# Altium schematic symbol library Varistors.SchLib: 1 symbol
Pins are listed as number, name and electrical type; pins without a type are passive.

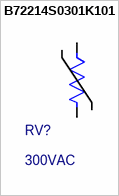
[diagram p0: symbol B72214S0301K101]

## B72214S0301K101
designator RV?, comment 300VAC
Var MOV 300VAC/385VDC 4500A 470V Thru-Hole Radial Automotive Bulk; Manufacturer: EPCOS; Manufacturer Part Number: B72214S0301K101; Value: 400pF; Clamping Current: 50A; Clamping Voltage: 775V; Energy: 76J; Lead Length: 30mm; Max Surge Current: 4.5kA; Max Voltage Rating (AC): 300V; Max Voltage Rating (DC): 385V; Power Dissipation: 600mW; Tolerance: 10%; Supplier: DigiKey; Supplier Part Number: 495-3789-ND; RoHS: Compliant; Category: Resistors; Stock: 24616; Pricing: 1=0.37, 10=0.258, 25=0.23, 100=0.1988, 250=0.18396, 500=0.17498, 1000=0.1676, 2500=0.15981, 5000=0.15511 (USD); Case/Package: Radial; China RoHS: Compliant; Contact Plating: Tin; Depth: 5.2mm; Diameter: 14mm; Height: 18.5mm; Lead/Base Style: Radial; Lead Pitch: 7.5mm; Lifecycle Status: Production; Max Operating Temperature: 105°C; Min Operating Temperature: -40°C; Mounting Technology: Radial, Through Hole; Number of Terminals: 2; Packaging: Bulk; REACH SVHC: Yes; Thickness: 5.2mm; Varistor Voltage: 470V; Voltage Rating (AC): 300V; Voltage Rating (DC): 385V; Voltage Tolerance: 10%; Weight: 4.000004g; Width: 5.2mm; Working Voltage: 385V; ComponentLink1URL: https://datasheet.octopart.com:443/B72214S0301K101-EPCOS-datasheet-136998859.pdf?src-supplier=Burklin+Elektronik; ComponentLink1Description: https://datasheet.octopart.com:443/B72214S0301K101-EPCOS-datasheet-136998859.pdf?src-supplier=Burklin+Elektronik; ComponentLink2URL: https://datasheet.octopart.com:443/B72214S0301K101-EPCOS-datasheet-109678825.pdf?src-supplier=Ciiva; ComponentLink2Description: https://datasheet.octopart.com:443/B72214S0301K101-EPCOS-datasheet-109678825.pdf?src-supplier=Ciiva; ComponentLink3URL: https://datasheet.octopart.com:443/B72214S0301K101-EPCOS-datasheet-62114839.pdf?src-supplier=Newark; ComponentLink3Description: https://datasheet.octopart.com:443/B72214S0301K101-EPCOS-datasheet-62114839.pdf?src-supplier=Newark; ComponentLink4URL: https://datasheet.octopart.com:443/B72214S0301K101-EPCOS-datasheet-38159044.pdf?src-supplier=Newark; ComponentLink4Description: https://datasheet.octopart.com:443/B72214S0301K101-EPCOS-datasheet-38159044.pdf?src-supplier=Newark; ComponentLink5URL: https://datasheet.octopart.com:443/B72214S0301K101-EPCOS-datasheet-11776948.pdf?src-supplier=element14+APAC; ComponentLink5Description: https://datasheet.octopart.com:443/B72214S0301K101-EPCOS-datasheet-11776948.pdf?src-supplier=element14+APAC; ComponentLink6URL: https://datasheet.octopart.com:443/B72214S0301K101-EPCOS-datasheet-567204.pdf?src-supplier=Farnell; ComponentLink6Description: https://datasheet.octopart.com:443/B72214S0301K101-EPCOS-datasheet-567204.pdf?src-supplier=Farnell; ComponentLink7URL: https://datasheet.octopart.com:443/B72214S0301K101-EPCOS-datasheet-1837.pdf?src-supplier=Farnell; ComponentLink7Description: https://datasheet.octopart.com:443/B72214S0301K101-EPCOS-datasheet-1837.pdf?src-supplier=Farnell; ComponentLink8URL: https://datasheet.octopart.com:443/B72214S0301K101-EPCOS-datasheet-99940739.pdf?src-supplier=TME; ComponentLink8Description: https://datasheet.octopart.com:443/B72214S0301K101-EPCOS-datasheet-99940739.pdf?src-supplier=TME; ComponentLink9URL: https://datasheet.octopart.com:443/B72214S0301K101-EPCOS-datasheet-17565824.pdf?src-supplier=TME; ComponentLink9Description: https://datasheet.octopart.com:443/B72214S0301K101-EPCOS-datasheet-17565824.pdf?src-supplier=TME
footprint MOV-B72214S0301K101
pins: 1, 2